# Altium integrated library MolexMicrofit3_4_POS.IntLib: 1 symbol
Pins are listed as number, name and electrical type; pins without a type are passive.

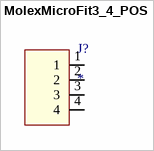
[diagram p0: symbol MolexMicroFit3_4_POS]

## MolexMicroFit3_4_POS
designator J?
CONN HEADER SMD 4POS 3MM / Manufacturer PN: 0430450418
footprint MicroFit3_4_POS
pins: 1, 2, 3, 4